# Altium schematic symbol library QSTL_M12C_BNC.SchLib: 6 symbols
Pins are listed as number, name and electrical type; pins without a type are passive.

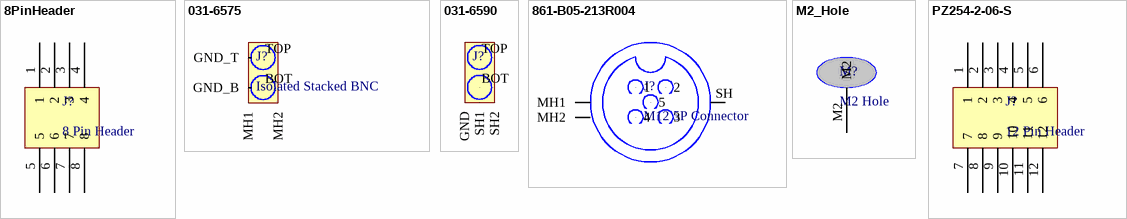
[diagram p0: symbols 8PinHeader to PZ254-2-06-S]

## 8PinHeader
designator J?, comment 8 Pin Header
https://jlcpcb.com/partdetail/221271-2_54_2_4P/C192300
footprint 8PinHeader (https://jlcpcb.com/partdetail/221271-2_54_2_4P/C192300)
pins: 1, 2, 3, 4, 5, 6, 7, 8

## 031-6575
designator J?, comment Isolated Stacked BNC
https://www.digikey.ca/en/products/detail/amphenol-rf/031-6575/4037241
footprint 031-6575 (https://www.digikey.ca/en/products/detail/amphenol-rf/031-6590/4037245)
pins: BOT, GND_B, GND_T, MH1, MH2, TOP

## 031-6590
designator J?, comment Stacked BNC  (value not drawn)
https://www.digikey.ca/en/products/detail/amphenol-rf/031-6590/4037245
footprint 031-6590 (https://www.digikey.ca/en/products/detail/amphenol-rf/031-6590/4037245)
pins: BOT, GND, SH1, SH2, TOP

## 861-B05-213R004
designator J?, comment M12 5P Connector
https://www.digikey.ca/en/products/detail/norcomp-inc/861-B05-213R004/22611951?s=N4IgTCBcDaIBwDYCMBaAQgBgKwrEgzAEoYYAsIAugL5A
footprint 861-B05-213R004 (https://www.digikey.ca/en/products/detail/norcomp-inc/861-B05-213R004/22611951?s=N4IgTCBcDaIBwDYCMBaAQgBgKwrEgzAEoYYAsIAugL5App)
pins: 1, 2, 3, 4, 5, MH1, MH2, SH

## M2_Hole
designator M?, comment M2 Hole
footprint M2_Hole (M2 Hole)
pins: M2

## PZ254-2-06-S
designator J?, comment 12 Pin Header
https://jlcpcb.com/partdetail/HCTL-PZ254_2_06S/C3294464
footprint PZ254-2-06-S (https://jlcpcb.com/partdetail/HCTL-PZ254_2_06S/C3294464)
pins: 1, 2, 3, 4, 5, 6, 7, 8, 9, 10, 11, 12